# Altium footprint library VF10.PcbLib: 58 footprints (part 3 of 4)
Each footprint in its own frame and in the unit in brackets; x right, y up, seen from the top. Pads: shape width x height; smd on the part's side, far side on the other; paste and mask are expansions set on the pad; w line width, h text height; cw(c..) or ccw(c..) is an arc to the next point about the centre after c.
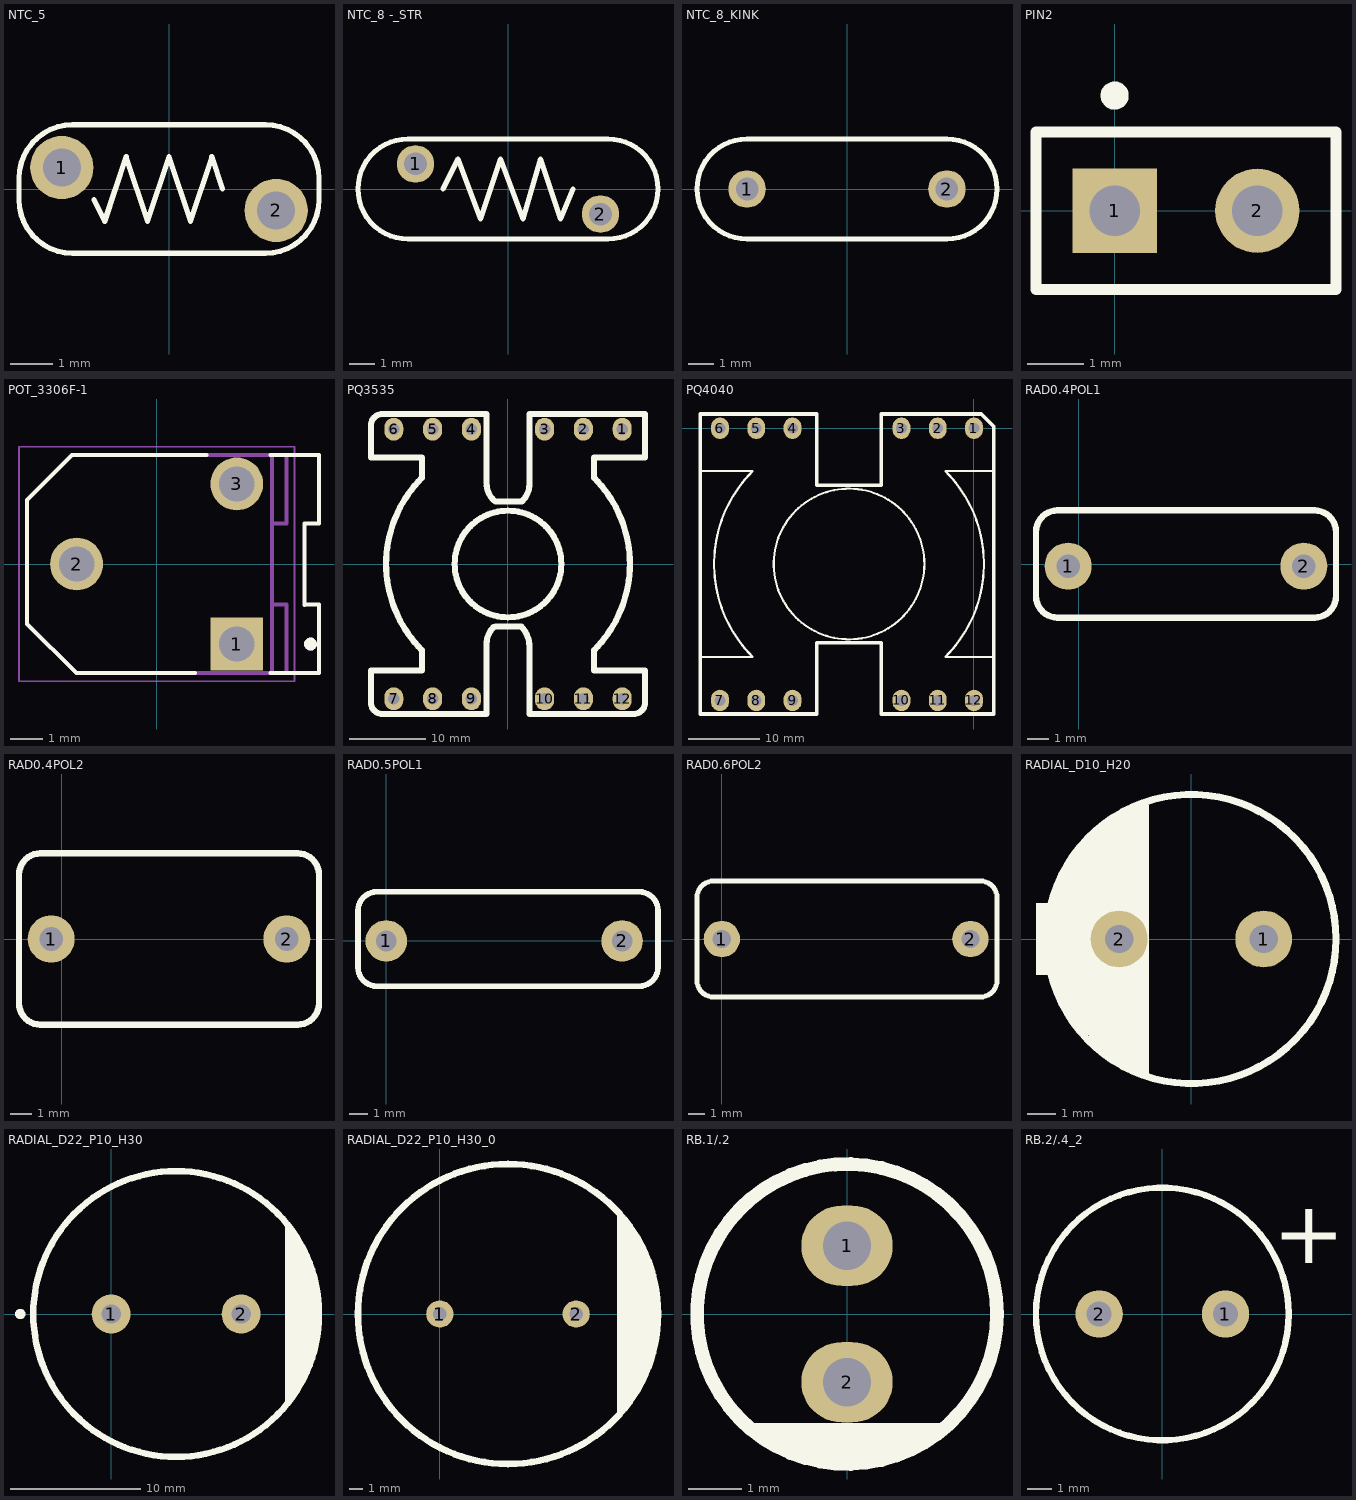
[diagram p2: the footprints below, top view; thin cyan lines are the x and y axes]

## NTC_5 [mm]
pads (2):
  round 1.5 hole 0.9: 1(-2.54,0.508) 2(2.54,-0.508)
Top Overlay:
  lines w0.127: -1.778,-0.254 -1.524,-0.762 -1.016,0.762 -0.508,-0.762 0,0.762 0.508,-0.762 1.016,0.762 1.27,0 ; -3.556,-0.254 ccw(c-2.286,-0.254) -2.286,-1.524 -2.032,-1.524 2.286,-1.524 ccw(c2.286,-0.254) 3.556,-0.254 3.556,0.254 ccw(c2.286,0.254) 2.286,1.524 2.032,1.524 -2.286,1.524 ccw(c-2.286,0.254) -3.556,0.254 -3.556,0 -3.556,-0.254
3D body "cdisk_p5x1_d6-2_th2-5.stp": height 9.19, standoff -4, extent -3.095,-1.302 3.097,1.198

## NTC_8 -_STR [mm]
pads (2):
  round 1.5 hole 0.9: 1(-3.7,1) 2(3.7,-1)
Top Overlay:
  lines w0.2: -2.6,0 -2,1.2 -1.1,-1.2 -0.3,1.2 0.6,-1.2 1.3,1.2 2.1,-1.2 2.6,0 ; -4,-2 cw(c-4,0) -4,2 4,2 cw(c4,0) 4,-2 -4,-2
3D body "User Library-S10K275.STEP": height 13, standoff -2.5, extent -6,-1.901 6,1.901

## NTC_8_KINK [mm]
pads (2):
  round 1.5 hole 0.9: 1(-4,0) 2(4,0)
Top Overlay:
  lines w0.2: -4,-2 cw(c-4,0) -4,2 4,2 cw(c4,0) 4,-2 -4,-2
3D body "User Library-S238.step": height 19.74, standoff -25.52, extent -7.85,-3.142 7.65,3.346

## PIN2 [mm] "Photosensitive Diode; 2 Leads"
pads (2):
  rect 1.5x1.5 hole 0.9: 1(0,0)
  round 1.5 hole 0.9: 2(2.54,0)
Top Overlay:
  circle w0.25: c0,2.05 r0.125
  lines w0.2: -1.4,-1.4 3.94,-1.4 3.94,1.4 -1.4,1.4 -1.4,-1.4

## POT_3306F-1 [mm]
height 1.35
pads (3):
  rect 1.65x1.65 hole 1.1: 1(2.5,-2.5)
  round 1.65 hole 1.1: 2(-2.5,0) 3(2.5,2.5)
Top Overlay:
  circle w0.2: c4.8,-2.5 r0.1
  lines w0.127: 1.2,-3.405 -2.51,-3.405 -4.05,-1.87 -4.05,2 -2.65,3.405 1.55,3.405 ; 3.556,-3.405 5.066,-3.405 5.066,-1.27 4.616,-1.27 ; 3.556,3.405 5.066,3.405 5.066,1.27 4.616,1.27 4.616,-1.27 ; 4.616,-1.28 4.616,-1.27
Mechanical 13:
  circle w0.2: c4.8,-2.5 r0.1
  lines w0.127: 3.6,-3.405 4.05,-3.405 4.05,-1.27 3.6,-1.27 ; 3.6,-3.405 3.6,-1.27 ; 3.6,-3.405 -2.51,-3.405 -4.05,-1.87 -4.05,2 -2.65,3.405 3.6,3.405 ; 3.6,-1.27 3.6,1.27 ; 3.6,1.27 4.05,1.27 4.05,3.405 3.6,3.405 ; 3.6,1.27 3.6,3.405
Mechanical 15:
  lines w0.05: -4.3,-3.655 -4.3,3.655 4.3,3.655 4.3,-3.655 -4.3,-3.655
3D body "3306f-1-102.stp": height 7.65, standoff -2.84, extent -3.048,-3.404 5.08,3.404

## PQ3535 [mm]
pads (12):
  oval 2.5x3 hole 1.5: 1(15,17.7) 2(9.9,17.7) 3(4.8,17.7) 4(-4.8,17.7) 5(-9.9,17.7) 6(-15,17.7) 7(-15,-17.7) 8(-9.9,-17.7) 9(-4.8,-17.7) 10(4.8,-17.7) 11(9.9,-17.7) 12(15,-17.7)
Top Overlay:
  circle w0.8: c0,0 r7
  lines w0.8: -11.314,-11.314 cw(c0,0) -11.314,11.314 -11.314,13.986 -17.986,13.986 cw(c-17.953,14.019) -18,14.019 -18,18.2 cw(c-16.5,18.2) -16.5,19.7 -2.8,19.7 -2.8,10.57 ccw(c0.266,10.57) -1.902,8.402 ccw(c-1.414,8.89) -1.414,8.2 0,8.2 1.659,8.2 ccw(c1.659,8.541) 1.9,8.3 1.902,8.302 ccw(c-0.266,10.47) 2.8,10.47 2.8,19.7 18,19.7 18,14.066 cw(c17.906,14.066) 17.973,14 11.3,14 11.3,11.327 ; -11.3,-11.327 -11.3,-14 -17.973,-14 ccw(c-17.906,-14.066) -18,-14.066 -18,-18.2 ccw(c-16.5,-18.2) -16.5,-19.7 -2.8,-19.7 -2.8,-10.47 cw(c0.266,-10.47) -1.902,-8.302 ; -1.659,-8.2 0,-8.2 1.75,-8.2 ; 1.75,-8.25 cw(c-0.785,-10.785) 2.8,-10.785 2.8,-19.7 16.5,-19.7 ccw(c16.5,-18.2) 18,-18.2 18,-14.019 ccw(c17.953,-14.019) 17.986,-13.986 11.314,-13.986 11.314,-11.314 ccw(c0,0) 11.314,11.314
3D body "PQ3535.STEP": height 38.8, standoff -6, extent -18.3,-19.5 18.3,19.5

## PQ4040 [mm]
pads (12):
  oval 2.5x3 hole 1.5: 1(0,0) 2(-5.08,0) 3(-10.16,0) 4(-25.4,0) 5(-30.48,0) 6(-35.56,0) 7(-35.56,-38.1) 8(-30.48,-38.1) 9(-25.4,-38.1) 10(-10.16,-38.1) 11(-5.08,-38.1) 12(0,-38.1)
Top Overlay:
  circle w0.3: c-17.5,-19 r10.548
  lines w0.3: -38.227,-32 -30.988,-32 ; -38.227,-6 -31,-6 ccw(c-18,-19) -31,-32 ; 2.794,-32 -4,-32 ccw(c-17,-19) -4,-6 2.794,-5.969
  lines w0.5: -38.354,-40 -38.354,2 -22,2 -22,-8 -13,-8 -13,2 1,2 2.794,0.206 2.794,-40 -13,-40 -13,-30 -22,-30 -22,-40 -38.354,-40

## RAD0.4POL1 [mm]
pads (2):
  round 2.2 hole 1.1: 1(-0.5,-0.1) 2(10.5,-0.1)
Top Overlay:
  lines w0.3: -2,-1.5 ccw(c-1,-1.5) -1,-2.5 11,-2.5 ccw(c11,-1.5) 12,-1.5 12,1.5 ccw(c11,1.5) 11,2.5 -1,2.5 ccw(c-1,1.5) -2,1.5 -2,-1.5

## RAD0.4POL2 [mm]
height 1.1
pads (2):
  round 2.2 hole 1.1: 1(-0.5,0) 2(10.5,0)
Top Overlay:
  lines w0.3: -2,-3 ccw(c-1,-3) -1,-4 11,-4 ccw(c11,-3) 12,-3 12,3 ccw(c11,3) 11,4 -1,4 ccw(c-1,3) -2,3 -2,-3

## RAD0.5POL1 [mm]
pads (2):
  round 2.2 hole 1.1: 1(0,0) 2(12.5,0)
Top Overlay:
  lines w0.3: 13.3,-2.4 -0.5,-2.4 cw(c-0.5,-1.4) -1.5,-1.4 -1.5,1.6 cw(c-0.5,1.6) -0.5,2.6 13.4,2.6 cw(c13.4,1.6) 14.4,1.6 14.4,-1.4 cw(c13.4,-1.4) 13.4,-2.4

## RAD0.6POL2 [mm]
height 1.1
pads (2):
  round 2.2 hole 1.1: 1(0,0) 2(15,0)
Top Overlay:
  lines w0.3: -1.5,-2.6 -1.5,2.6 ; -1.5,-2.5 ccw(c-0.5,-2.5) -0.5,-3.5 15.6,-3.5 ccw(c15.6,-2.5) 16.6,-2.5 16.6,2.5 ccw(c15.6,2.5) 15.6,3.5 ; -1.5,2.5 cw(c-0.5,2.5) -0.5,3.5 15.5,3.5

## RADIAL_D10_H20 [mm]
pads (2):
  round 2 hole 1: 1(2.54,0) 2(-2.54,0)
Top Overlay:
  circle w0.254: c0,0 r5.08
  rectangle: -5.461,-1.27 -4.889,1.27
  region: -1.5,4.7 -1.5,-4.796 -1.539,-4.834 -1.688,-4.834 -1.98,-4.776 -2.256,-4.662 -2.503,-4.497 -2.609,-4.391 -4.156,-2.844 -4.333,-2.667 -4.611,-2.251 -4.802,-1.789 -4.9,-1.298 -4.9,-1.048 -4.948,-1 -5.022,-0.889 -5.074,-0.764 -5.1,-0.632 -5.1,-0.565 -5.1,0.651 -5.1,0.853 -5.021,1.249 -4.867,1.622 -4.643,1.957 -4.5,2.1 -4.5,2.243 -4.444,2.523 -4.335,2.786 -4.177,3.023 -4.076,3.124 -3.183,4.017 -3.116,4.084 -2.957,4.19 -2.782,4.263 -2.595,4.3 -2.5,4.3 -2.405,4.395 -2.181,4.545 -1.933,4.648 -1.669,4.7 -1.534,4.7
3D body "Aluminum_electrolytic_capacitor_radial_D10_H20_PinD0.6_Pitch5_nominal_black.step": height 20, standoff -3, extent -5,-5 5,5

## RADIAL_D22_P10_H30 [mm]
pads (2):
  round 3 hole 1.5: 1(0,0) 2(10,0)
Top Overlay:
  circle w0.5: c5,0 r11
  circle w0.6: c-7,0 r0.1
  region: 13.4,6.9 14.356,5.944 14.533,5.767 14.811,5.351 15.002,4.889 15.1,4.398 15.1,4.148 15.1,3.9 15.156,3.844 15.333,3.667 15.611,3.251 15.802,2.789 15.9,2.298 15.9,2.048 15.9,-2.11 15.9,-2.345 15.808,-2.807 15.628,-3.242 15.366,-3.634 15.2,-3.8 15.2,-4.022 15.21,-4.262 15.136,-4.736 14.971,-5.187 14.721,-5.597 14.558,-5.774 13.4,-7.2
3D body "Aluminum_electrolytic_capacitor_radial_D22_H30_PinD1.0_Pitch10_nominal_blue.step": height 30, standoff -3, extent -6,-11 16,11

## RADIAL_D22_P10_H30_0 [mm]
pads (2):
  round 2 hole 1: 1(0,0) 2(10,0)
Top Overlay:
  circle w0.5: c5,0 r11
  region: 13,7.557 13,-7.2 13.9,-6.3 15.9,-2.3 15.793,3.168
3D body "Aluminum_electrolytic_capacitor_radial_D22_H30_PinD1.0_Pitch10_nominal_blue.step": height 30, standoff -3, extent -6,-11 16,11

## RB.1/.2 [mm]
pads (2):
  oval 1.7x1.5 hole 0.9: 1(0,1.27) 2(0,-1.27)
Top Overlay:
  circle w0.254: c0,0 r2.794
  region: -1.905,-2.032 -1.887,-2.05 -1.71,-2.227 -1.294,-2.505 -0.832,-2.696 -0.341,-2.794 -0.091,-2.794 0.091,-2.794 0.341,-2.794 0.832,-2.696 1.294,-2.505 1.71,-2.227 1.887,-2.05 1.905,-2.032
3D body "Aluminum_electrolytic_capacitor_radial_D6.3_H11_PinD0.5_Pitch2.5_nominal_black.step": height 11, standoff -3, extent -3.122,-3.149 3.172,3.139

## RB.2/.4_2 [mm]
pads (2):
  round 1.905 hole 1: 1(2.54,0) 2(-2.54,0)
Top Overlay:
  circle w0.254: c0,0 r5.08
  text "+" at 4.445,2.032 h2.54